# EAGLE library part OPT3001-AMBIENTLIGHT (library Sensors)
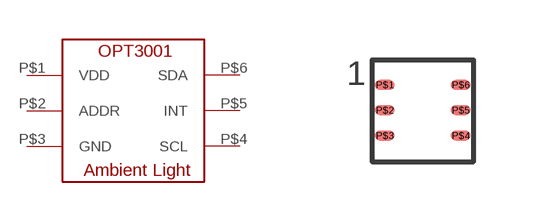
[diagram p0: symbol with the pads of USON-6; footprint USON-6]

Designator prefix -

## OPT3001-AMBIENTLIGHT  [USON-6]
P$1  VDD
P$2  ADDR
P$3  GND
P$4  SCL
P$5  INT
P$6  SDA

## Footprint USON-6 (pad centres in mm)
smd 0.5 x 0.25: P$1 -0.95,0.65; P$2 -0.95,0.015; P$3 -0.95,-0.62; P$4 0.95,-0.62; P$5 0.95,0.015; P$6 0.95,0.65